# Altium integrated library CC0201MRX5R6BB105.IntLib: 2 symbols
Pins are listed as number, name and electrical type; pins without a type are passive.

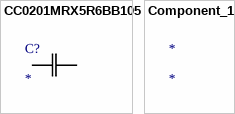
[diagram p0: symbols CC0201MRX5R6BB105 to Component_1]

## CC0201MRX5R6BB105
designator C?
No Description Available; Mfr_Name: Yageo
footprint CAP_CC0201_YAG
pins: 1, 2

## Component_1
designator *